# EAGLE library part 3RP/1610G (library Komputronika)
16mm Potentiometer two level Source: http://www.alphapotentiometers.net/html/16mm_pot_2.html
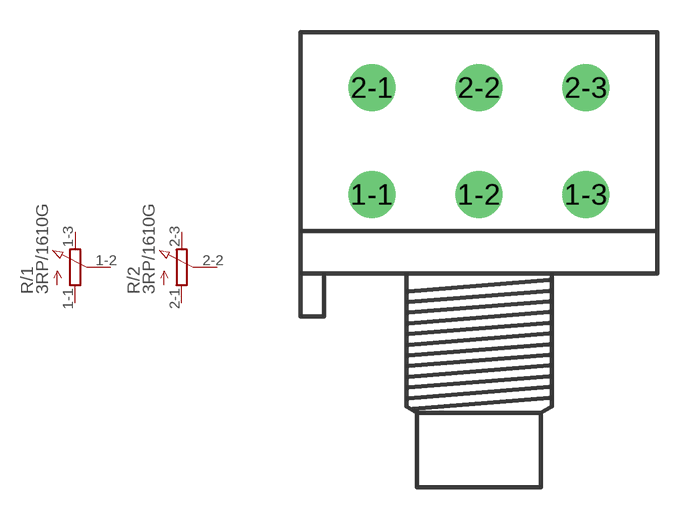
[diagram p21: symbol with the pads of 3RP/1610G; footprint 3RP/1610G]

Designator prefix R; gates /1=POT_EU- /2=POT_EU-

## 3RP/1610G  [3RP/1610G]
1-1  /1:A  pas
1-2  /1:S  pas
1-3  /1:E  pas
2-1  /2:A  pas
2-2  /2:S  pas
2-3  /2:E  pas

## Footprint 3RP/1610G (pad centres in mm)
16mm Potentiometer two level Source: http://www.alphapotentiometers.net/html/16mm_pot_2.html
drill 1.2 pad 2.184: 1-1 -5,0; 1-2 0,0; 1-3 5,0; 2-1 -5,5; 2-2 0,5; 2-3 5,5